# EAGLE library part MEGA48/88PA (library custom)
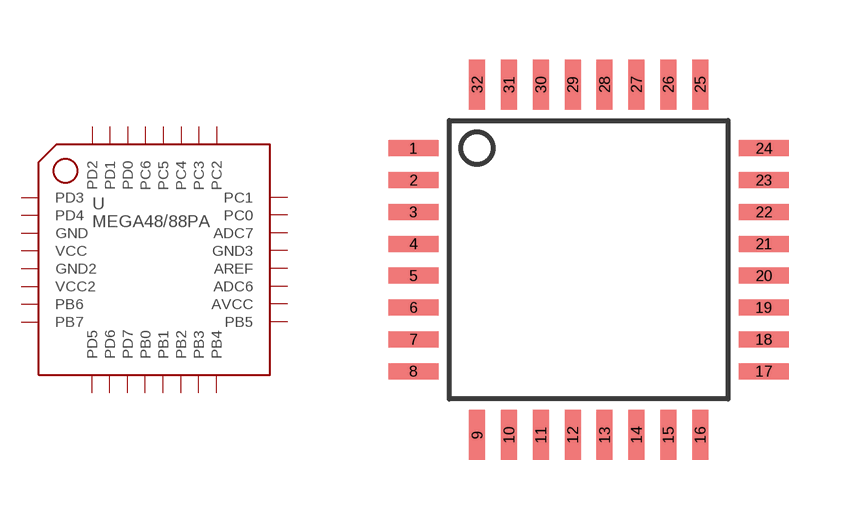
[diagram p6: symbol with the pads of TQFP32; footprint TQFP32]

Designator prefix U

## MEGA48/88PA  [TQFP32]
1  PD3
2  PD4
3  GND
4  VCC
5  GND2
6  VCC2
7  PB7
8  PD5
9  PD6
10  PD7
11  PB0
12  PB1
13  PB2
14  PB3
15  PB4
16  PB5
17  AVCC
18  ADC6
19  AREF
20  GND3
21  ADC7
22  PC0
23  PC1
24  PC2
25  PC3
26  PC4
27  PC5
28  PC6
29  PD0
30  PD1
31  PB6
32  PD2

## Footprint TQFP32 (pad centres in mm)
smd 1.25 x 0.4: 1 -4.4,2.8; 2 -4.4,2; 3 -4.4,1.2; 4 -4.4,0.4; 5 -4.4,-0.4; 6 -4.4,-1.2; 7 -4.4,-2; 8 -4.4,-2.8; 17 4.4,-2.8; 18 4.4,-2; 19 4.4,-1.2; 20 4.4,-0.4; 21 4.4,0.4; 22 4.4,1.2; 23 4.4,2; 24 4.4,2.8
smd 0.4 x 1.25: 9 -2.8,-4.4; 10 -2,-4.4; 11 -1.2,-4.4; 12 -0.4,-4.4; 13 0.4,-4.4; 14 1.2,-4.4; 15 2,-4.4; 16 2.8,-4.4; 25 2.8,4.4; 26 2,4.4; 27 1.2,4.4; 28 0.4,4.4; 29 -0.4,4.4; 30 -1.2,4.4; 31 -2,4.4; 32 -2.8,4.4